# EAGLE library part TNETE2201B_PJD_64 (library Texas Instruments)
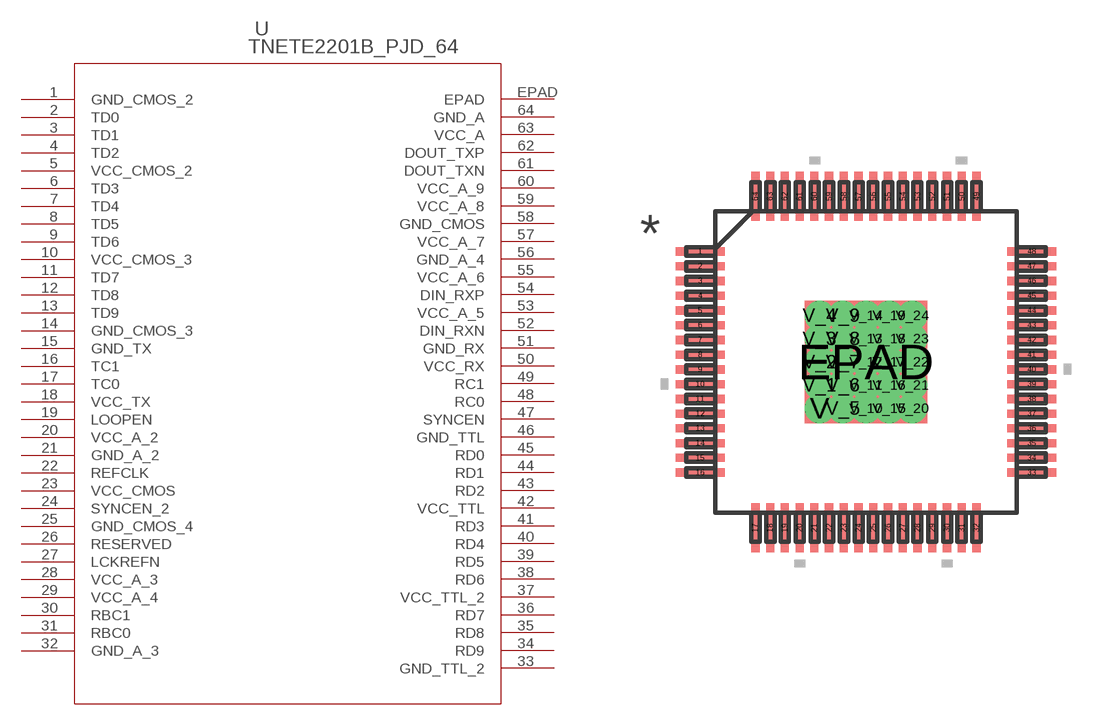
[diagram p23: symbol with the pads of PJD64_4P15X4P15; footprint PJD64_4P15X4P15]

Designator prefix U

## TNETE2201B_PJD_64 (DATASHEETURL: http://www.ti.com/lit/gpn/TNETE2201B; DESCRIPTION: 1.25-Gigabit Ethernet Transceiver; FAMILY_NAME: GIGABIT ETHERNET/FIBRE CHANNEL TRANSCEIVER; GENERIC_PART_NUMBER: TNETE2201B; INDUSTRY_STD_PKG_TYPE: HTQFP; MANUFACTURER: Texas Instruments; MANUFACTURER_PART_NUMBER: tnete2201b_pjd_64; PACKAGE_DESIGNATOR: PJD; PIN_COUNT: 64; VENDOR: Texas Instruments)  [PJD64_4P15X4P15]
1  GND_CMOS_2  pwr
2  TD0  in
3  TD1  in
4  TD2  in
5  VCC_CMOS_2  pwr
6  TD3  in
7  TD4  in
8  TD5  in
9  TD6  in
10  VCC_CMOS_3  pwr
11  TD7  in
12  TD8  in
13  TD9  in
14  GND_CMOS_3  pwr
15  GND_TX  pwr
16  TC1  in
17  TC0  in
18  VCC_TX  pwr
19  LOOPEN  in
20  VCC_A_2  pwr
21  GND_A_2  pwr
22  REFCLK  in
23  VCC_CMOS  pwr
24  SYNCEN_2  in
25  GND_CMOS_4  pwr
26  RESERVED  pas
27  LCKREFN  in
28  VCC_A_3  pwr
29  VCC_A_4  pwr
30  RBC1  out
31  RBC0  out
32  GND_A_3  pwr
33  GND_TTL_2  pwr
34  RD9  out
35  RD8  out
36  RD7  out
37  VCC_TTL_2  pwr
38  RD6  out
39  RD5  out
40  RD4  out
41  RD3  out
42  VCC_TTL  pwr
43  RD2  out
44  RD1  out
45  RD0  out
46  GND_TTL  pwr
47  SYNCEN  in
48  RC0  pas
49  RC1  pas
50  VCC_RX  pwr
51  GND_RX  pwr
52  DIN_RXN  in
53  VCC_A_5  pwr
54  DIN_RXP  in
55  VCC_A_6  pwr
56  GND_A_4  pwr
57  VCC_A_7  pwr
58  GND_CMOS  pwr
59  VCC_A_8  pwr
60  VCC_A_9  pwr
61  DOUT_TXN  out
62  DOUT_TXP  out
63  VCC_A  pwr
64  GND_A  pwr
EPAD  EPAD  pas

## Footprint PJD64_4P15X4P15 (pad centres in mm)
smd 1.676 x 0.279: 1 -5.62,3.75; 2 -5.62,3.25; 3 -5.62,2.75; 4 -5.62,2.25; 5 -5.62,1.75; 6 -5.62,1.25; 7 -5.62,0.75; 8 -5.62,0.25; 9 -5.62,-0.25; 10 -5.62,-0.75; 11 -5.62,-1.25; 12 -5.62,-1.75; 13 -5.62,-2.25; 14 -5.62,-2.75; 15 -5.62,-3.25; 16 -5.62,-3.75; 33 5.62,-3.75; 34 5.62,-3.25; 35 5.62,-2.75; 36 5.62,-2.25; 37 5.62,-1.75; 38 5.62,-1.25; 39 5.62,-0.75; 40 5.62,-0.25; 41 5.62,0.25; 42 5.62,0.75; 43 5.62,1.25; 44 5.62,1.75; 45 5.62,2.25; 46 5.62,2.75; 47 5.62,3.25; 48 5.62,3.75
smd 0.279 x 1.676: 17 -3.75,-5.62; 18 -3.25,-5.62; 19 -2.75,-5.62; 20 -2.25,-5.62; 21 -1.75,-5.62; 22 -1.25,-5.62; 23 -0.75,-5.62; 24 -0.25,-5.62; 25 0.25,-5.62; 26 0.75,-5.62; 27 1.25,-5.62; 28 1.75,-5.62; 29 2.25,-5.62; 30 2.75,-5.62; 31 3.25,-5.62; 32 3.75,-5.62; 49 3.75,5.62; 50 3.25,5.62; 51 2.75,5.62; 52 2.25,5.62; 53 1.75,5.62; 54 1.25,5.62; 55 0.75,5.62; 56 0.25,5.62; 57 -0.25,5.62; 58 -0.75,5.62; 59 -1.25,5.62; 60 -1.75,5.62; 61 -2.25,5.62; 62 -2.75,5.62; 63 -3.25,5.62; 64 -3.75,5.62
smd 4.14 x 4.14: EPAD 0,0
drill 0.508: V -1.575,-1.575; V_1 -1.575,-0.787; V_2 -1.575,0; V_3 -1.575,0.787; V_4 -1.575,1.575; V_5 -0.787,-1.575; V_6 -0.787,-0.787; V_7 -0.787,0; V_8 -0.787,0.787; V_9 -0.787,1.575; V_10 0,-1.575; V_11 0,-0.787; V_12 0,0; V_13 0,0.787; V_14 0,1.575; V_15 0.787,-1.575; V_16 0.787,-0.787; V_17 0.787,0; V_18 0.787,0.787; V_19 0.787,1.575; V_20 1.575,-1.575; V_21 1.575,-0.787; V_22 1.575,0; V_23 1.575,0.787; V_24 1.575,1.575